# EAGLE library part YM2151DEV (library YM2151)
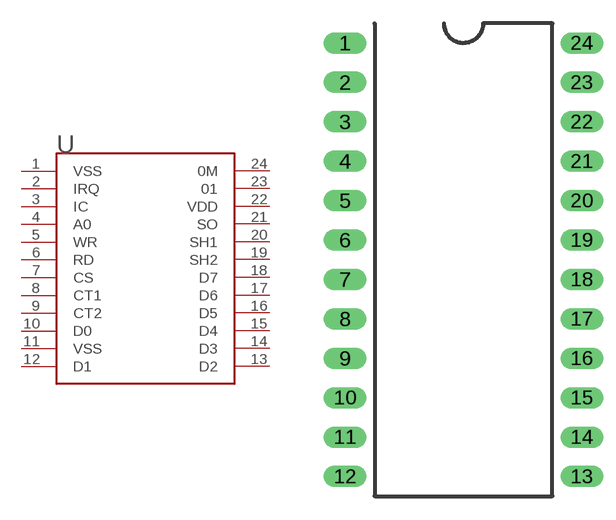
[diagram p0: symbol with the pads of YM2151PAC; footprint YM2151PAC]

Designator prefix -

## YM2151DEV  [YM2151PAC]
1  VSS  sup
2  IRQ  out
3  IC  in
4  A0  in
5  WR  in
6  RD  in
7  CS  in
8  CT1  out
9  CT2  out
10  D0
11  VSS  sup
12  D1
13  D2
14  D3
15  D4
16  D5
17  D6
18  D7
19  SH2  out
20  SH1  out
21  SO  out
22  VDD  pwr
23  01  out
24  0M  in

## Footprint YM2151PAC (pad centres in mm)
drill 0.889 pad 1.372 long: 1 0,-2.54; 2 0,-5.08; 3 0,-7.62; 4 0,-10.16; 5 0,-12.7; 6 0,-15.24; 7 0,-17.78; 8 0,-20.32; 9 0,-22.86; 10 0,-25.4; 11 0,-27.94; 12 0,-30.48; 13 15.24,-30.48; 14 15.24,-27.94; 15 15.24,-25.4; 16 15.24,-22.86; 17 15.24,-20.32; 18 15.24,-17.78; 19 15.24,-15.24; 20 15.24,-12.7; 21 15.24,-10.16; 22 15.24,-7.62; 23 15.24,-5.08; 24 15.24,-2.54